# EAGLE library part HEADER10 (library mike)
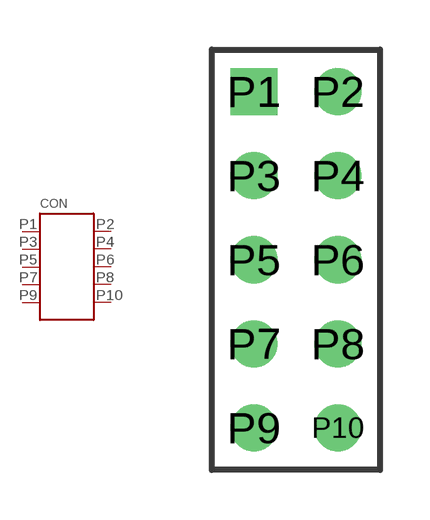
[diagram p19: symbol with the pads of HEADER10; footprint HEADER10]

Designator prefix CON

## HEADER10  [HEADER10]
P1  P1
P2  P2
P3  P3
P4  P4
P5  P5
P6  P6
P7  P7
P8  P8
P9  P9
P10  P10

## Footprint HEADER10 (pad centres in mm)
drill 0.889 pad 1.422 square: P1 -1.27,5.08
drill 0.889 pad 1.422 round: P2 1.27,5.08; P3 -1.27,2.54; P4 1.27,2.54; P5 -1.27,0; P6 1.27,0; P7 -1.27,-2.54; P8 1.27,-2.54; P9 -1.27,-5.08; P10 1.27,-5.08